# EAGLE library part 748421245 (library balun)
Wurth Electronics 748421245
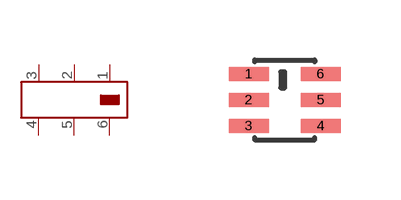
[diagram p0: symbol with the pads of 0805_BALUN; footprint 0805_BALUN]

Designator prefix -

## 748421245  [0805_BALUN]
1  1
2  2
3  3
4  4
5  5
6  6

## Footprint 0805_BALUN (pad centres in mm)
smd 1 x 0.35: 1 -0.9,0.65; 2 -0.9,0; 3 -0.9,-0.65; 4 0.9,-0.65; 5 0.9,0; 6 0.9,0.65